# Altium footprint library OPL_Switch.PCBLIB: 13 footprints
Each footprint in its own frame and in the unit in brackets; x right, y up, seen from the top. Pads: shape width x height; smd on the part's side, far side on the other; paste and mask are expansions set on the pad; w line width, h text height; cw(c..) or ccw(c..) is an arc to the next point about the centre after c.
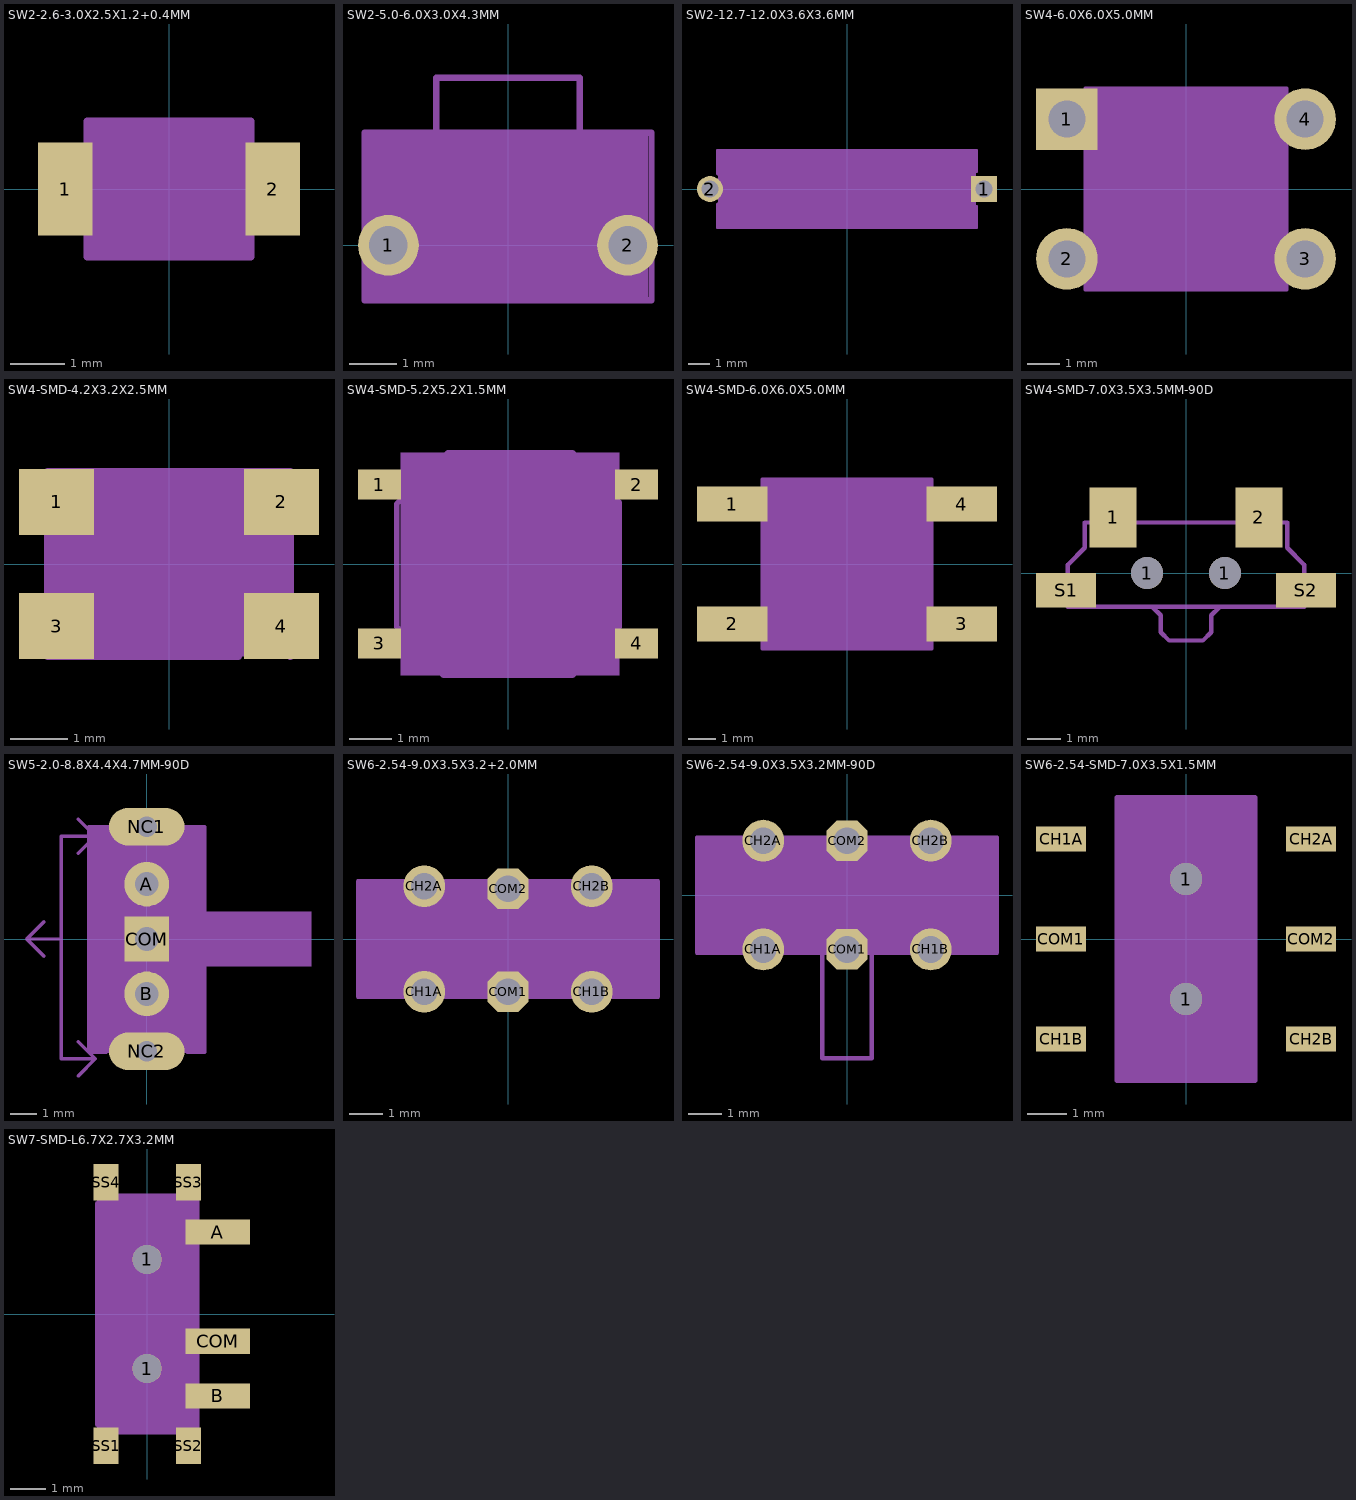
[diagram p0: the footprints below, top view; thin cyan lines are the x and y axes]

## SW2-2.6-3.0X2.5X1.2+0.4MM [mm]
pads (2):
  rect 1x1.7 smd: 1(-1.9,0) 2(1.9,0)
Mechanical 2:
  lines w0.127: -1.5,-1.25 1.5,-1.25 ; -1.5,-1.2 -1.5,-1 ; -1.5,1 -1.5,1.2 ; -1.5,1.25 1.5,1.25 ; 1.5,1 1.5,1.2
Mechanical 8:
  lines w0.127: -1.5,-1.25 -1.5,1.25 ; 1.5,-1.25 1.5,1.25
Mech34:
  region: -1.5,-1.2 -1.5,1.2 1.5,1.2 1.5,-1.2

## SW2-5.0-6.0X3.0X4.3MM [mil]
pads (2):
  round 50 hole 31.5: 1(-98.43,0) 2(98.43,0)
Mechanical 2:
  lines w5: -118.11,-23.62 -118.11,-45.28 118.11,-45.28 118.11,-23.62 ; -118.11,23.62 -118.11,90.55 ; -118.11,92.52 -59.06,92.52 ; 118.11,23.62 118.11,90.55 ; 118.11,92.52 59.06,92.52 ; -59.06,92.52 59.06,92.52 ; -59.06,92.52 -59.06,137.8 59.06,137.8 59.06,92.52
Mechanical 8:
  lines w5: -118.11,-45.28 -118.11,92.52 ; 118.11,-45.28 118.11,92.52
Mech34:
  region: -120,-45 -120,90 115,90 115,-45

## SW2-12.7-12.0X3.6X3.6MM [mil]
pads (2):
  rect 47.25x47.25 hole 31.5: 1(250,0)
  round 47.25 hole 31.5: 2(-250,0)
Mechanical 2:
  lines w5: -236.22,-27.56 -236.22,-70.87 236.22,-70.87 236.22,-31.5 ; -236.22,27.56 -236.22,70.87 236.22,70.87 236.22,31.5 ; -150,0 -50,0 ; 0,50 50,0 150,0
Mech34:
  region: -235,70 235,70 235,-70 -235,-70

## SW4-6.0X6.0X5.0MM [mil]
pads (4):
  rect 75x75 hole 45: 1(-145,85)
  round 75 hole 45: 2(-145,-85) 3(145,-85) 4(145,85)
Mechanical 2:
  lines w5: -122.05,-122.05 122.05,-122.05 122.05,122.05 -122.05,122.05 -122.05,-122.05
Mech34:
  region: -122.05,-122.05 -122.05,122.05 122.05,122.05 122.05,-122.05

## SW4-SMD-4.2X3.2X2.5MM [mil]
pads (4):
  rect 51.18x45.28 smd: 1(-76.77,42.32) 2(76.77,42.32) 3(-76.77,-42.32) 4(76.77,-42.32)
Mechanical 2:
  lines w5: -82.68,-15.75 -82.68,15.75 ; -47.24,-62.99 47.24,-62.99 ; -47.24,62.99 47.24,62.99 ; 82.68,-15.75 82.68,15.75 ; -51.18,0 cw(c-11.81,3.94) -15.75,43.31 15.75,43.31 cw(c11.81,3.94) 51.18,0 cw(c11.81,-3.94) 15.75,-43.31 -15.75,-43.31 cw(c-11.81,-3.94) -51.18,0
Mechanical 8:
  lines w5: -47.24,-62.99 -82.68,-62.99 -82.68,62.99 -47.24,62.99 ; 47.24,62.99 82.68,62.99 82.68,-62.99
Mech34:
  region: -82.68,-62.99 -82.68,62.99 82.68,62.99 82.68,-62.99

## SW4-SMD-5.2X5.2X1.5MM [mm]
pads (4):
  rect 1x0.7 smd: 1(-3,1.85) 2(3,1.85) 3(-3,-1.85) 4(3,-1.85)
Mechanical 2:
  lines w0.127: -2.6,-1.46 -2.6,1.396 ; -2.4,-1.7 -1.5,-2.6 -1.46,-2.6 -1.1,-2.6 1.5,-2.6 2.4,-1.7 ; -2.4,1.6 -1.4,2.6 1.5,2.6 2.4,1.7 ; 2.6,-1.469 2.6,1.434
Mechanical 8:
  lines w0.127: -2.6,-1.46 -1.46,-2.6 ; -2.6,1.396 -1.396,2.6 ; 1.434,2.6 2.6,1.434 ; 1.469,-2.6 2.6,-1.469
Mech34:
  region: -2.5,-2.6 -2.5,2.6 2.6,2.6 2.6,-2.6

## SW4-SMD-6.0X6.0X5.0MM [mil]
pads (4):
  rect 100x50 smd: 1(-162.56,85) 2(-162.56,-85) 3(162.56,-85) 4(162.56,85)
Mechanical 2:
  lines w5: -120,-120 120,-120 120,120 -120,120 -120,-120
Mech34:
  region: -120,-120 -120,120 120,120 120,-120

## SW4-SMD-7.0X3.5X3.5MM-90D [mil]
pads (6):
  rect 55x70 smd: 1(-85,65) 2(85,65)
  round 37.4 hole 37.4: 1(-45.28,0) 1(45.28,0)
  rect 70x40 smd: S1(-140,-20) S2(140,-20)
Mechanical 2:
  lines w5: -137.8,3.94 -137.8,7.87 ; -137.8,9.84 -118.11,29.53 -118.11,59.06 ; -98.43,-39.37 -39.37,-39.37 ; -51.18,59.06 51.18,59.06 ; 98.43,-39.37 39.37,-39.37 ; 118.11,59.06 118.11,29.53 137.8,9.84 ; 137.8,3.94 137.8,7.87 ; -39.37,-39.37 39.37,-39.37 ; -39.37,-39.37 -29.53,-49.21 -29.53,-68.9 -19.69,-78.74 19.69,-78.74 29.53,-68.9 29.53,-49.21 39.37,-39.37
Mechanical 8:
  lines w5: -137.8,9.84 -137.8,-39.37 -39.37,-39.37 ; -118.11,59.06 118.11,59.06 ; 39.37,-39.37 137.8,-39.37 137.8,9.84

## SW5-2.0-8.8X4.4X4.7MM-90D [mil]
pads (5):
  round 65 hole 35: A(0,80) B(0,-80)
  rect 65x65 hole 35: COM(0,0)
  oval 110x55 hole 30: NC1(0,164) NC2(0,-164)
Mechanical 2:
  region: 85,-40 85,40 240,40 240,-40
  lines w5: -85.04,-165.35 -59.06,-165.35 ; -85.04,161.42 -59.06,161.42 ; -85,-164 -85,164 ; 59.06,-165.35 85.04,-165.35 ; 59.06,161.42 85.04,161.42 ; 85,-164 85,164
Mechanical 8:
  lines w5: -85,-164 85,-164 ; -85,164 85,164
Mech34:
  region: -85,-163 -85,163 85,163 85,-163
Mech36:
  lines w5: -150,-25 -175,0 ; -150,25 -175,0 ; -100,-200 -75,-175 ; -100,-150 -75,-175 ; -100,125 -75,150 ; -100,175 -75,150 ; -175,0 -125,0 ; -125,0 -125,150 -75,150 ; -125,0 -125,-175 -75,-175
  lines w35: -30,-164 30,-164 ; -30,164 30,164

## SW6-2.54-9.0X3.5X3.2+2.0MM [mil]
pads (6):
  round 50 hole 32: CH1A(-100,-62.99) CH1B(100,-62.99) CH2A(-100,62.99) CH2B(100,62.99)
  oct 48.41x48.41 hole 32: COM1(0,-62.99) COM2(0,60)
Mechanical 2:
  lines w5: -179.13,-68.9 -179.13,68.9 ; -177.17,-68.9 -129.92,-68.9 ; -177.17,68.9 -129.92,68.9 ; -74.8,-68.9 -27.56,-68.9 ; -70.87,68.9 -31.5,68.9 ; 27.56,-68.9 70.87,-68.9 ; 27.56,68.9 70.87,68.9 ; 129.92,-68.9 177.17,-68.9 ; 129.92,68.9 177.17,68.9 ; 179.13,-68.9 179.13,68.9
Mechanical 8:
  lines w5: -179.13,-68.9 179.13,-68.9 ; -179.13,68.9 179.13,68.9
Mech34:
  region: 179.13,-68.9 -179.13,-68.9 -179.13,68.9 179.13,68.9

## SW6-2.54-9.0X3.5X3.2MM-90D [mil]
pads (6):
  round 50 hole 32: CH1A(-100,-64.96) CH1B(100,-64.96) CH2A(-100,64.96) CH2B(100,64.96)
  oct 48.41x48.41 hole 32: COM1(0,-64.96) COM2(0,64.96)
Mechanical 2:
  lines w5: -179.13,-68.9 -179.13,68.9 -129.92,68.9 ; -177.17,-68.9 -129.92,-68.9 ; -70.87,-68.9 -27.56,-68.9 ; -70.87,68.9 -31.5,68.9 ; -29.53,-68.9 -29.53,-194.88 29.53,-194.88 29.53,-68.9 ; 27.56,-68.9 74.8,-68.9 ; 27.56,68.9 70.87,68.9 ; 129.92,-68.9 177.17,-68.9 ; 129.92,68.9 177.17,68.9 ; 179.13,-68.9 179.13,68.9
Mechanical 8:
  lines w5: -179.13,-68.9 179.13,-68.9 ; -179.13,68.9 179.13,68.9
Mech34:
  region: -179.13,-68.9 -179.13,68.9 179.13,68.9 179.13,-68.9

## SW6-2.54-SMD-7.0X3.5X1.5MM [mil]
pads (8):
  round 32 hole 32: 1(0,-60) 1(0,60)
  rect 50x25 smd: CH1A(-125,100) CH1B(-125,-100) CH2A(125,100) CH2B(125,-100) COM1(-125,0) COM2(125,0)
Mechanical 2:
  lines w5: -68.9,-141.73 68.9,-141.73 68.9,141.73 -68.9,141.73 -68.9,-141.73
Mech34:
  region: -68.9,-141.73 -68.9,141.73 68.9,141.73 68.9,-141.73

## SW7-SMD-L6.7X2.7X3.2MM [mil]
pads (9):
  round 32 hole 32: 1(0,-60) 1(0,60)
  rect 70.87x27.56 smd: A(77.87,90) B(77.87,-90) COM(77.87,-30)
  rect 27.56x40 smd: SS1(-45.28,-145) SS2(45.28,-145) SS3(45.28,145) SS4(-45.28,145)
Mechanical 2:
  region: -25,-50 -25,50 25,50 25,-50
  lines w5: -55,-122.05 -55,122.05 ; -27.56,-129.92 23.62,-129.92 ; -27.56,129.92 27.56,129.92 ; 55.12,-122.05 55.12,-106.3 ; 55.12,-70.87 55.12,-47.24 ; 55.12,-7.87 55.12,70.87 ; 55.12,106.3 55.12,122.05
Mechanical 8:
  lines w5: -55,-130 55,-130 55,130 -55,130
Mech34:
  region: -55,-130 -55,130 55,130 55,-130